# Altium schematic symbol library Main.SchLib: 28 symbols
Pins are listed as number, name and electrical type; pins without a type are passive.

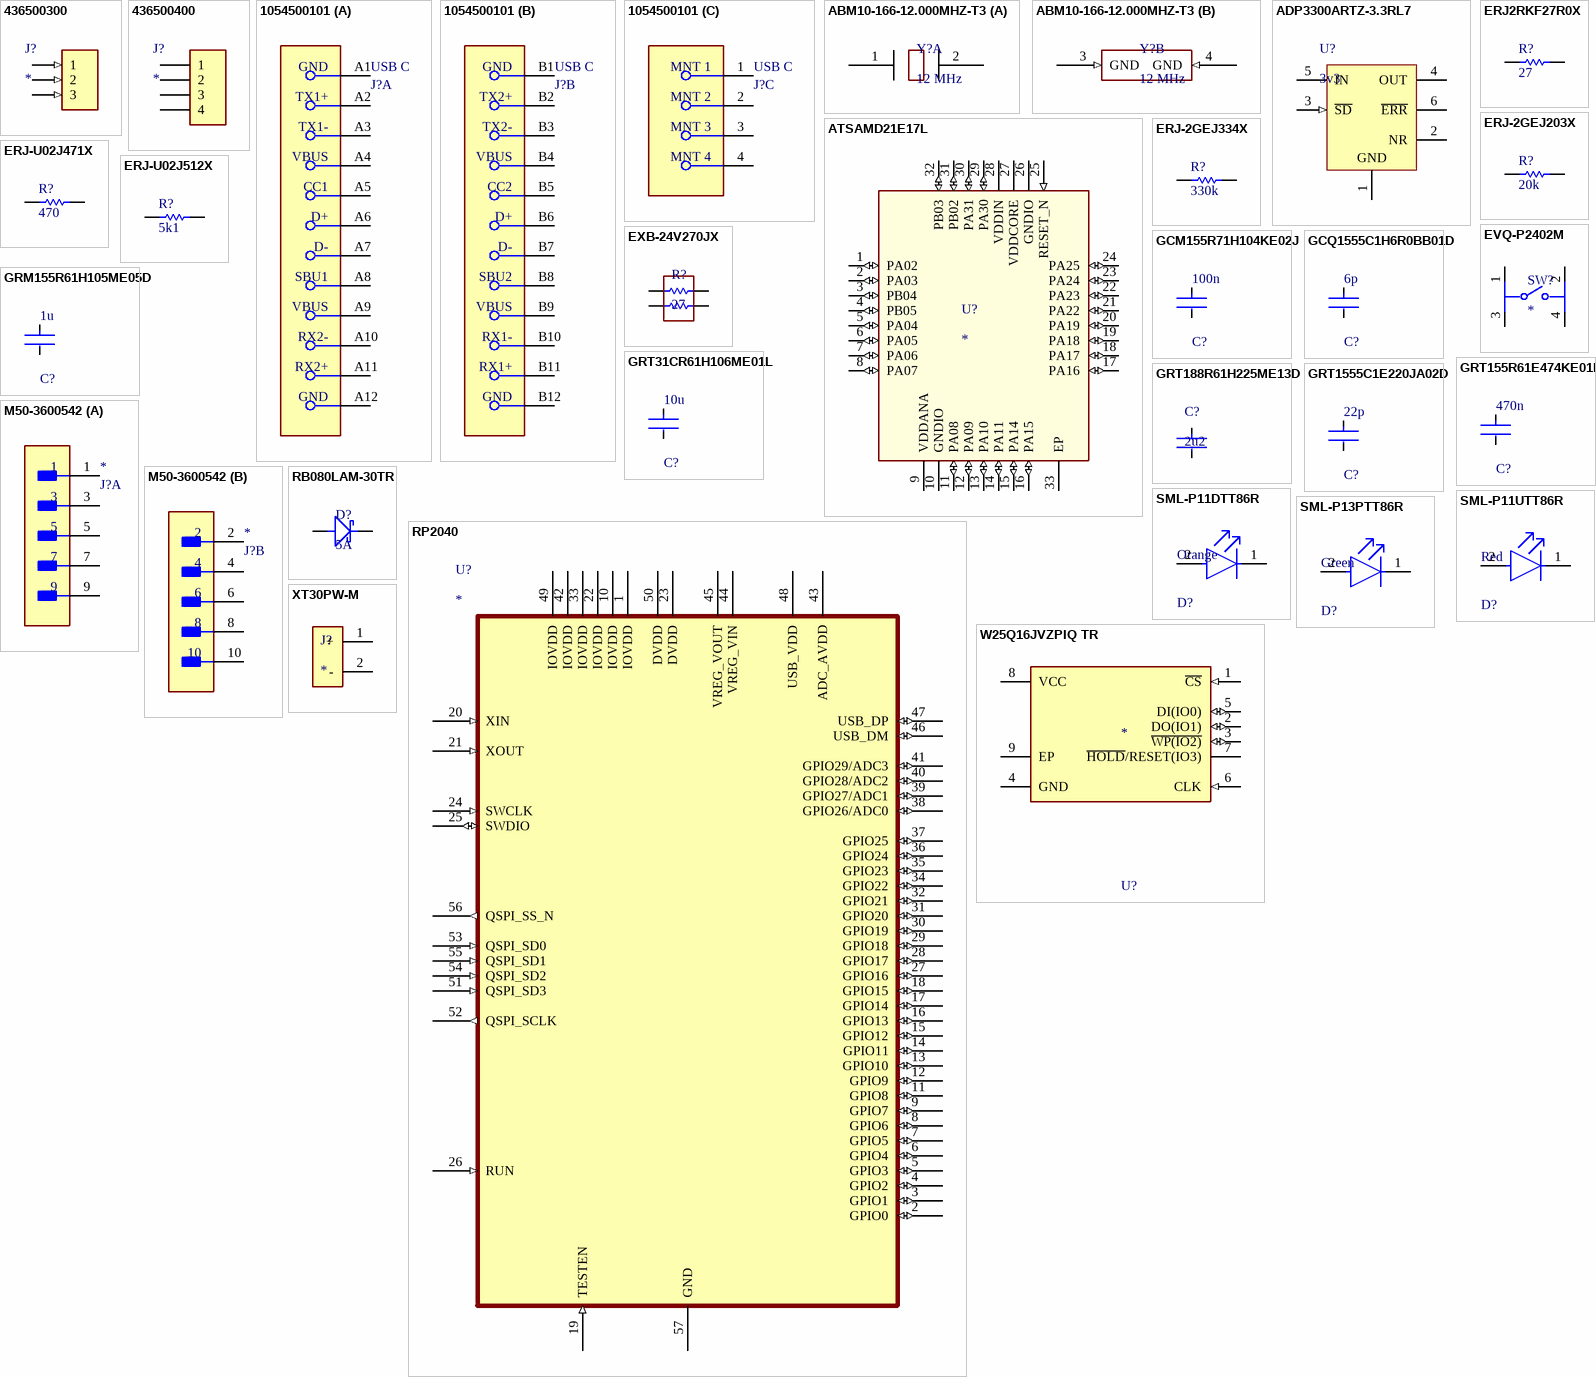
[diagram p0: symbols 436500300 to XT30PW-M]

## 436500300
designator J?
Supplier 1: Digi-Key; Supplier Part Number 1: WM1861-ND
footprint 436500300 (Molex 3 Pin Micro-Fit Single Row)
pins: 1 (in), 2 (in), 3 (in)

## 436500400
designator J?
Supplier 1: Digi-Key; Supplier Part Number 1: WM1862-ND
footprint 436500400 (Molex 4 pin Microfit Single Row)
pins: 1, 2, 3, 4

## 1054500101
designator J?, comment USB C
CONN RCP USB3.1 TYPEC 24P SMD RA; Manufacturer: Molex; Manufacturer Part Number: 1054500101; Number Of Contacts: 24; Voltage Rating: 30V; Shielding: true; Is Female: yes; Current Rating: 0.25/1.25/5A; Pitch: 0.5mm; Conn Orientation: Right Angle; Package: 0; Height: 3.44mm; Footprint Url: https://www.molex.com/pdm_docs/sd/1054500101_sd.pdf; Device Class L1: Connectors; Category: Conn; Device Class L2: USB Connectors; Digikey Description: CONN RCP USB3.1 TYPEC 24P SMD RA; Contact Material: Gold,Nickel; Mouser Description: USB Shielded I/O Receptacle; Type C; Right Angle; Surface Mount; Gold over Nickel; ComponentLink2Description: Datasheet; Lead Free: Yes; Automotive: No; Temperature Range High: +85°C; RoHS: TRUE; Octopart: https://octopart.com/105450-0101-molex-68082325; ComponentLink2URL: https://www.molex.com/webdocs/datasheets/pdf/en-us/1054500101_IO_CONNECTORS.pdf; Temperature: -30°C to +85°C; Usb Standard: USB 3.1; Temperature Range Low: -30°C; Device Class L3: unset; Supplier 1: Digi-Key; Supplier Part Number 1: WM12856CT-ND
footprint FP-1054500101-MFG
part A pins: A1 GND, A2 TX1+, A3 TX1-, A4 VBUS, A5 CC1, A6 D+, A7 D-, A8 SBU1, A9 VBUS, A10 RX2-, A11 RX2+, A12 GND
part B pins: B1 GND, B2 TX2+, B3 TX2-, B4 VBUS, B5 CC2, B6 D+, B7 D-, B8 SBU2, B9 VBUS, B10 RX1-, B11 RX1+, B12 GND
part C pins: 1 MNT 1, 2 MNT 2, 3 MNT 3, 4 MNT 4

## ABM10-166-12.000MHZ-T3
designator Y?, comment 12 MHz
Supplier 1: Newark; Supplier Part Number 1: 51AC8104
footprint XTAL_ABRACON_ABM10
part A pins: 1, 2
part B pins: 3 GND (in), 4 GND (in)

## ADP3300ARTZ-3.3RL7
designator U?, comment 3v3
High Accuracy anyCAP(R) 50 mA Low Dropout Linear Regulator, 3 to 12 V Vin, 3.3 V Vout, Industrial, 6-pin SOT23 (RT-6), Reel; Manufacturer: Analog Devices; PartNumber: ADP3300ARTZ-3.3RL7; Supply Current IGND @ Small Load: 190uA; Vin (max) (V): 12; Iout max: 50mA; Vin (min) (V): 3; Preset Vout Values (V): 3.3; PackageReference: RT-6; Packing: Reel; ComponentLink2Description: Datasheet; ComponentLink4URL: Product URL:http://www.analog.com/en/ADP3300/productSearch.html; ComponentLink3Description: Package Specification; ComponentLink4Description: URL Link1; ComponentLink2URL: http://www.analog.com/static/imported-files/data_sheets/ADP3300.pdf; ComponentLink1URL: http://www.analog.com/en/index.html; Mounting Technology: Surface Mount; PackageDescription: 6-Pin Plastic Surface Mount SOT-23 Package, Body 2.9 x 1.65 mm, Pitch 0.95 mm; ComponentLink3URL: http://www.analog.com/static/imported-files/data_sheets/ADG465.pdf; PackageVersion: REV. A, 11/2006; ComponentLink1Description: Manufacturer URL; DatasheetVersion: Rev. B; Supplier 1: Digi-Key; Supplier Part Number 1: ADP3300ARTZ3.3RCT-ND
footprint SOT95P280X145-6L (SOT23, 6-Leads, Body 2.90x2.80mm, Pitch 0.95mm, IPC High Density)
pins: 1 GND (power) "Ground Pin", 2 NR "Noise Reduction Pin. Used for further reduction of the output noise (see text for details). No connection if not used.", 3 ~{SD} (in) "Active Low Shutdown Pin. Connect to ground to disable the regulator output. When shutdown is not used, this pin should be connected to the input pin.", 4 OUT (power) "Output of the Regulator, fixed 2.7, 3.0, 3.2, 3.3 or 5 volts output voltage. Bypass to ground with a 0.47 uF or larger capacitor.", 5 IN (power) "Regulator Input", 6 ~{ERR} (oc) "Open Collector Output which goes low to indicate that the output is about to go out of regulation."

## ATSAMD21E17L
designator U?
Supplier 1: Arrow Electronics; Supplier Part Number 1: ATSAMD21E17L-MNT
footprint QFN50P500X500X100_HS-33L (QFN, 32-Leads, Body 5.00x5.00mm, Pitch 0.50mm, Thermal Pad 3.60x3.60mm, IPC High Density)
pins: 1 PA02 (io), 2 PA03 (io), 3 PB04 (io), 4 PB05 (io), 5 PA04 (io), 6 PA05 (io), 7 PA06 (io), 8 PA07 (io), 9 VDDANA (power), 10 GNDIO (power), 11 PA08 (io), 12 PA09 (io), 13 PA10 (io), 14 PA11 (io), 15 PA14 (io), 16 PA15 (io), 17 PA16 (io), 18 PA17 (io), 19 PA18 (io), 20 PA19 (io), 21 PA22 (io), 22 PA23 (io), 23 PA24 (io), 24 PA25 (io), 25 RESET_N (in), 26 GNDIO (power), 27 VDDCORE (power), 28 VDDIN (power), 29 PA30 (io), 30 PA31 (io), 31 PB02 (io), 32 PB03 (io), 33 EP (power)

## ERJ2RKF27R0X
designator R?, comment 27
Manufacturer: Panasonic; Part Number: ERJ2RKF27R0X; Supplier 1: Newark; Supplier Part Number 1: 85Y8229
footprint RESC1005X04N (Chip Resistor, 2-Leads, Body 1.00x0.50mm, IPC Medium Density)
pins: 1, 2
1 alternate drawing of the same symbol

## ERJ-2GEJ203X
designator R?, comment 20k
Manufacturer: Panasonic; Part Number: ERJ2RKF27R0X; Supplier 1: Newark; Supplier Part Number 1: 65T8263
footprint RESC1005X04N (Chip Resistor, 2-Leads, Body 1.00x0.50mm, IPC Medium Density)
pins: 1, 2
1 alternate drawing of the same symbol

## ERJ-2GEJ334X
designator R?, comment 330k
Manufacturer: Panasonic; Part Number: ERJ2RKF27R0X; Supplier 1: Digi-Key; Supplier Part Number 1: P330KJCT-ND
footprint RESC1005X04N (Chip Resistor, 2-Leads, Body 1.00x0.50mm, IPC Medium Density)
pins: 1, 2
1 alternate drawing of the same symbol

## ERJ-U02J471X
designator R?, comment 470
Manufacturer: Panasonic; Part Number: ERJ2RKF27R0X; Supplier 1: Digi-Key; Supplier Part Number 1: 10-ERJ-U02J471XCT-ND
footprint RESC1005X04N (Chip Resistor, 2-Leads, Body 1.00x0.50mm, IPC Medium Density)
pins: 1, 2
1 alternate drawing of the same symbol

## ERJ-U02J512X
designator R?, comment 5k1
Manufacturer: Panasonic; Part Number: ERJ2RKF27R0X; Supplier 1: Mouser; Supplier Part Number 1: 667-ERJ-U02J512X
footprint RESC1005X04N (Chip Resistor, 2-Leads, Body 1.00x0.50mm, IPC Medium Density)
pins: 1, 2
1 alternate drawing of the same symbol

## EVQ-P2402M
designator SW?
Supplier 1: Digi-Key; Supplier Part Number 1: P11080SCT-ND
footprint EVQ-P2402M (Tactile Switch)
pins: 1, 2, 3, 4

## EXB-24V270JX
designator R?, comment 27
Supplier 1: Digi-Key; Supplier Part Number 1: Y5270CT-ND
footprint CAC-65P100X100-4L (Chip Array, ConvexE, 4-Leads, Pitch 0.65mm,  Body 1.00x1.00mm,  IPC High Density)
pins: 1, 2, 3, 4

## GCM155R71H104KE02J
designator C?, comment 100n
Ceramic Capacitor for Automotive 100nF ±10% 50VDC X7R 0402 Paper T/R; Voltage Rating (DC): 50V; Case Code (Metric): 1005; Dielectric: X7R; Capacitance: 100nF; Packaging: Tape and Reel; Min Operating Temperature: -55°C; Length: 0.039inch; Thickness: 0.022inch; Height: 0.5mm; Mount: Surface Mount; Termination: SMD/SMT; Voltage Rating: 50V; Package Quantity: 50000; Width: 0.02inch; Case/Package: 0402; Case Code (Imperial): 0402; Ratings: AEC-Q200; Max Operating Temperature: 125°C; Tolerance: 10%; Weight: 0.000212oz; Supplier 1: Digi-Key; Supplier Part Number 1: 490-14514-1-ND
footprint FP-GCM155-0_05-MFG
pins: 1, 2

## GCQ1555C1H6R0BB01D
designator C?, comment 6p
High Q Ceramic Capacitor for Automotive 6pF ±0.1pF 50VDC C0G 0402 Paper T/R; Voltage Rating: 50V; Max Operating Temperature: 125°C; Capacitance: 6pF; Case Code (Imperial): 0402; Min Operating Temperature: -55°C; Case/Package: 0402; Mount: Surface Mount; Case Code (Metric): 1005; Ratings: AEC-Q200; Packaging: Tape and Reel; Supplier 1: Digi-Key; Supplier Part Number 1: 490-17493-1-ND
footprint FP-GCQ155-0_05-MFG
pins: 1, 2

## GRM155R61H105ME05D
designator C?, comment 1u
Chip Multilayer Ceramic Capacitors for General Purpose, 0402, 1.0uF, X5R, 15%, 20%, 50V; Supplier 1: Digi-Key; Supplier Part Number 1: 490-GRM155R61H105ME05DTR-ND
footprint FP-GRM155-0_1-MFG
pins: 1, 2

## GRT31CR61H106ME01L
designator C?, comment 10u
CAP CER 10UF 50V X5R 1206; Tolerance: 20%; Length: 0.126inch; Mount: Surface Mount; Packaging: Tape and Reel; Capacitance: 10uF; Case/Package: 1206; Case Code (Imperial): 1206; Max Operating Temperature: 85°C; Voltage Rating: 50V; Ratings: AEC-Q200; Min Operating Temperature: -55°C; Thickness: 0.071inch; Width: 0.063inch; Case Code (Metric): 3216; Supplier 1: Digi-Key; Supplier Part Number 1: 490-12457-1-ND
footprint FP-GRT31C-0_2-IPC_C
pins: 1, 2

## GRT155R61E474KE01D
designator C?, comment 470n
Multi-Layer Ceramic Capacitor 470nF 25V X5R ±10% 0402 Paper T/R; Tolerance: 10%; Packaging: Tape and Reel; Capacitance: 470nF; Case Code (Imperial): 0402; Ratings: AEC-Q200; Max Operating Temperature: 85°C; Case/Package: 0402; Length: 0.039inch; Width: 0.02inch; Case Code (Metric): 1005; Mount: Surface Mount; Voltage Rating: 25V; Thickness: 0.022inch; Min Operating Temperature: -55°C; Supplier 1: Digi-Key; Supplier Part Number 1: 490-12269-1-ND
footprint FP-GRT155-0_05-MFG
pins: 1, 2

## GRT188R61H225ME13D
designator C?, comment 2u2
Multilayer Ceramic Capacitors MLCC - SMD/SMT 0603 50Vdc 2.2uF X5R 20%; Supplier 1: Future Electronics; Supplier Part Number 1: 5087209
footprint CAPC1608X10N (Chip Capacitor, 2-Leads, Body 1.60x0.80mm, IPC Medium Density)
pins: 1, 2

## GRT1555C1E220JA02D
designator C?, comment 22p
Multi-Layer Ceramic Capacitor 22pF 25V C0G ±5% 0402 Paper T/R; Supplier 1: Mouser; Supplier Part Number 1: 81-GRT1555C1E220JA2D
footprint FP-GRT155-0_05-MFG
pins: 1, 2

## M50-3600542
designator J?
CONN HEADER SMD 10POS 1.27MM; Gender: Male; Insulation Resistance: 5GR; Row Spacing: 0.05inch; Number of Contacts: 10; Current Rating: 1A; Contact Resistance: 30mR; Length: 6.35mm; Mount: Surface Mount; Radiation Hardening: No; Contact Material: Copper Alloy; Material: Thermoplastic; Package Quantity: 1000; Contact Plating: Gold; Depth: 3.41mm; Contact Mating Length: 0.118inch; Number of Rows: 2; Pitch: 1.27mm; Packaging: Tray; Termination: Solder; Number of Positions: 10; Max Current Rating: 1A; Insulation Material: Thermoplastic; REACH SVHC: No SVHC; Min Operating Temperature: -40°C; Color: Black; Housing Material: Thermoplastic; Max Operating Temperature: 105°C; Orientation: Straight; Supplier 1: Digi-Key; Supplier Part Number 1: 952-1389-ND
footprint FP-M50-3600542-MFG
part A pins: 1, 3, 5, 7, 9
part B pins: 2, 4, 6, 8, 10

## RB080LAM-30TR
designator D?, comment 5A
Supplier 1: Digi-Key; Supplier Part Number 1: RB080LAM-30CT-ND
footprint SODFL470X105-2L (SODFL, 2-Leads, Body 2.50x4.70mm, IPC High Density)
pins: 1 (power), 2 (power)

## RP2040
designator U?
Supplier 1: Newark; Supplier Part Number 1: 49AJ8739
footprint QFN40P700X700X90_HS-57N (QFN, 56-Leads, Body 7.00x7.00mm, Pitch 0.40mm, Thermal Pad 3.10x3.10mm, IPC Medium Density)
pins: 1 IOVDD (power), 2 GPIO0 (io), 3 GPIO1 (io), 4 GPIO2 (io), 5 GPIO3 (io), 6 GPIO4 (io), 7 GPIO5 (io), 8 GPIO6 (io), 9 GPIO7 (io), 10 IOVDD (power), 11 GPIO8 (io), 12 GPIO9 (io), 13 GPIO10 (io), 14 GPIO11 (io), 15 GPIO12 (io), 16 GPIO13 (io), 17 GPIO14 (io), 18 GPIO15 (io), 19 TESTEN (in), 20 XIN (in), 21 XOUT (in), 22 IOVDD (power), 23 DVDD (power), 24 SWCLK (in), 25 SWDIO (io), 26 RUN (in), 27 GPIO16 (io), 28 GPIO17 (io), 29 GPIO18 (io), 30 GPIO19 (io), 31 GPIO20 (io), 32 GPIO21 (io), 33 IOVDD (power), 34 GPIO22 (io), 35 GPIO23 (io), 36 GPIO24 (io), 37 GPIO25 (io), 38 GPIO26/ADC0 (io), 39 GPIO27/ADC1 (io), 40 GPIO28/ADC2 (io), 41 GPIO29/ADC3 (io), 42 IOVDD (power), 43 ADC_AVDD (power), 44 VREG_VIN (power), 45 VREG_VOUT (power), 46 USB_DM (io), 47 USB_DP (io), 48 USB_VDD (power), 49 IOVDD (power), 50 DVDD (power), 51 QSPI_SD3 (in), 52 QSPI_SCLK (out), 53 QSPI_SD0 (in), 54 QSPI_SD2 (in), 55 QSPI_SD1 (in), 56 QSPI_SS_N (out), 57 GND (power)

## SML-P11DTT86R
designator D?, comment Orange
LED ORANGE CLEAR 1006 SMD; Manufacturer Part Number: SML-P11DTT86R; Manufacturer: Rohm; Forward Current: 1mA; Wavelength: 605nm; Reverse Voltage: 5V; Power Dissipation: 52mW; Led Orientation: Top View; Luminous Intensity: 7.3mcd; Forward Voltage: 1.9V; Mouser Description: LED Uni-Color Orange 2-Pin Chip 0402(1006Metric) T/R; RoHS: TRUE; Temperature: -40°C to +85°C; Package: SML-P11; Automotive: No; Digikey Description: LED ORANGE CLEAR 1006 SMD; Lead Free: Yes; Octopart: https://octopart.com/sml-p11dtt86r-rohm-34112313; Temperature Range Low: -40°C; Device Class L2: LEDs; Device Class L3: unset; Height: 0.25mm; Temperature Range High: +85°C; Device Class L1: Optoelectronics; ComponentLink2URL: https://d1d2qsbl8m0m72.cloudfront.net/en/products/databook/datasheet/opto/led/chip_mono/sml-p11-e.pdf; Colour: Orange; Category: Diode; ComponentLink2Description: Datasheet; Supplier 1: Digi-Key; Supplier Part Number 1: SML-P11DTT86RCT-ND
footprint FP-SML-P1-MFG
pins: 1 C, 2 A

## SML-P11UTT86R
designator D?, comment Red
LED RED CLEAR 1006 SMD; Manufacturer: Rohm; Manufacturer Part Number: SML-P11UTT86R; Wavelength: 621nm; Led Orientation: Top View; Luminous Intensity: 2.5mcd; Power Dissipation: 50mW; Forward Voltage: 1.8V; Reverse Voltage: 5V; Forward Current: 1mA; Device Class L2: LEDs; RoHS: TRUE; Device Class L1: Optoelectronics; Colour: Red; Lead Free: Yes; Height: 0.25mm; Automotive: No; Octopart: https://octopart.com/sml-p11utt86r-rohm-39058751; Temperature: -40°C to +85°C; Temperature Range Low: -40°C; Package: SML-P1; ComponentLink2URL: https://www.rohm.com/datasheet/SML-P11UT(R)/sml-p11-e; ComponentLink2Description: Datasheet; Category: Diode; Temperature Range High: +85°C; Device Class L3: unset; Mouser Description: Led, Picoled, Red, 621 Nm, 1.8 V, 1 Ma, 2.5 Mcd; Digikey Description: LED RED CLEAR 1006 SMD; Supplier 1: Digi-Key; Supplier Part Number 1: SML-P11UTT86RCT-ND
footprint FP-SML-P1-MFG
pins: 1 C, 2 A

## SML-P13PTT86R
designator D?, comment Green
LED GREEN CLEAR 1006 SMD; Manufacturer Part Number: SML-P13PTT86R; Manufacturer: Rohm; Power Dissipation: 52mW; Forward Current: 20mA; Reverse Voltage: 5V; Led Orientation: Top View; Forward Voltage: 2.1V; Luminous Intensity: 10mcd; Wavelength: 560nm; Temperature: -40°C to +85°C; Digikey Description: LED GREEN CLEAR 1006 SMD; Lead Free: Yes; Height: 0.25mm; Package: SML-P1; RoHS: TRUE; Mouser Description: LED Uni-Color Green 2-Pin Chip 0402(1006Metric) T/R; Device Class L2: LEDs; ComponentLink2URL: https://d1d2qsbl8m0m72.cloudfront.net/en/products/databook/datasheet/opto/led/chip_mono/sml-p1-e.pdf; Device Class L1: Optoelectronics; ComponentLink2Description: Datasheet; Category: Diode; Temperature Range High: +85°C; Automotive: No; Temperature Range Low: -40°C; Octopart: https://octopart.com/sml-p13ptt86r-rohm-59370256; Device Class L3: unset; Colour: Green; Supplier 1: Digi-Key; Supplier Part Number 1: 846-1197-1-ND
footprint FP-SML-P1-MFG
pins: 1 C, 2 A

## W25Q16JVZPIQ TR
designator U?
IC FLASH 16M SPI 133MHZ 8WSON; Memory Type: Non-Volatile; Memory Size: 16Mb; Max Operating Temperature: 85°C; Min Operating Temperature: -40°C; Frequency: 133MHz; Mount: Surface Mount; Packaging: Tape and Reel; Supplier 1: Digi-Key; Supplier Part Number 1: W25Q16JVZPIQCT-ND
footprint WSON-8
pins: 1 ~{CS} (in), 2 DO(IO1) (io), 3 ~{WP(IO2)} (io), 4 GND (power), 5 DI(IO0) (io), 6 CLK (in), 7 ~{HOLD}/RESET(IO3), 8 VCC (power), 9 EP

## XT30PW-M
designator J?
footprint XT30PW-M
pins: 1 + (power), 2 - (power)